# Altium schematic symbol library 制冷系统控制板.SCHLIB: 35 symbols
Pins are listed as number, name and electrical type; pins without a type are passive.

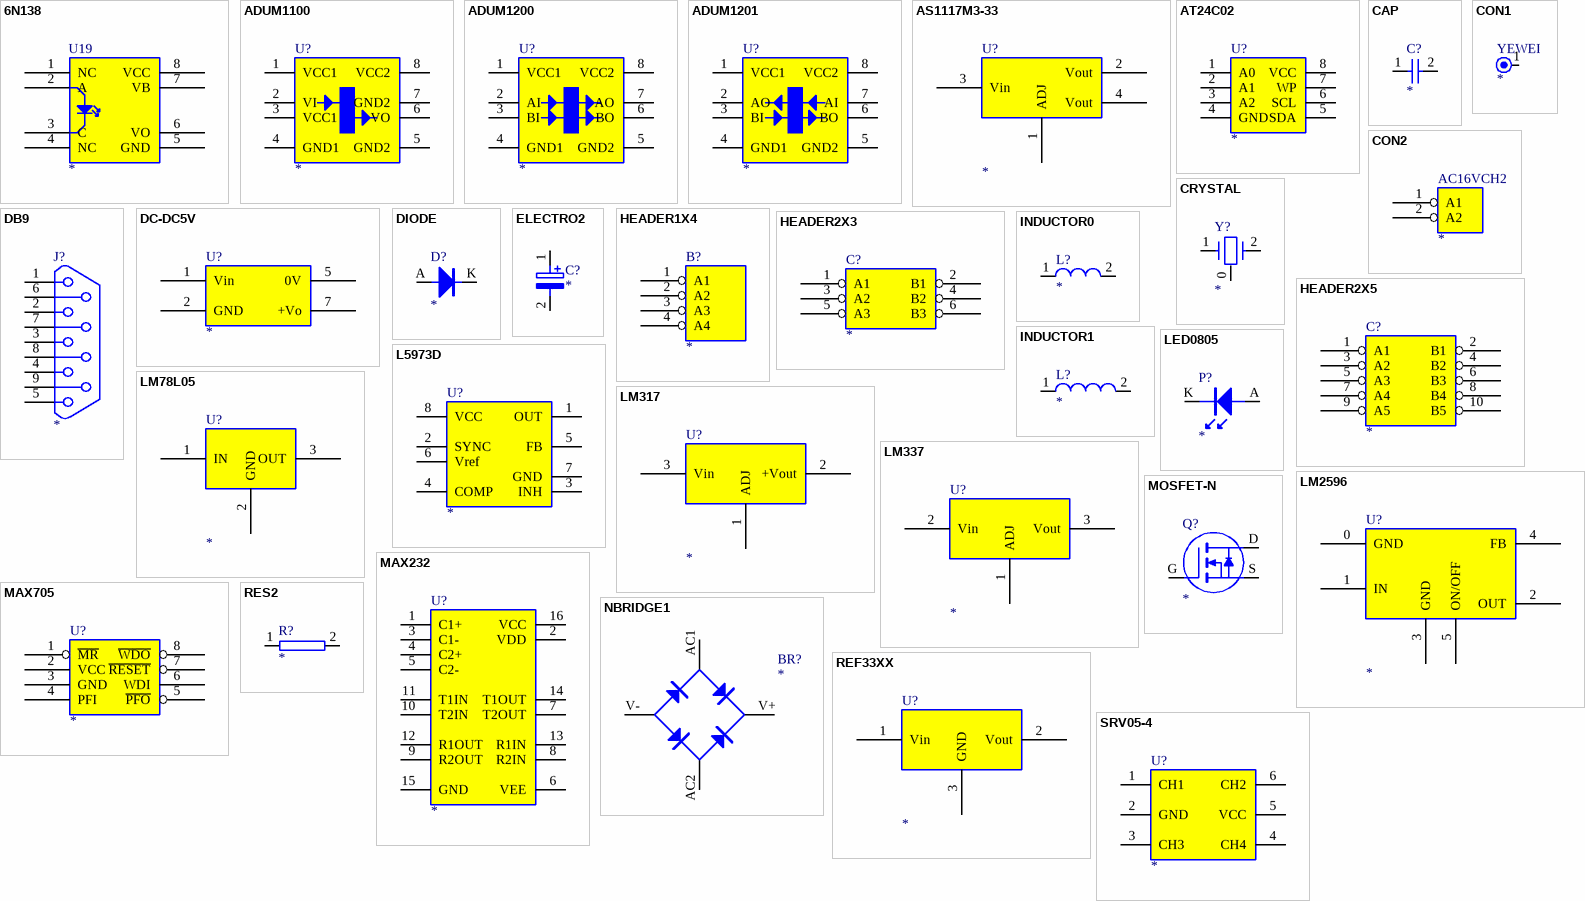
[diagram p0: symbols 6N138 to SRV05-4]

## 6N138
designator U19
footprint DIP08
footprint DIP08
pins: 1 NC, 2 A, 3 C, 4 NC, 5 GND, 6 VO, 7 VB, 8 VCC
2 alternate drawings of the same symbol

## ADUM1100
designator U?
footprint SOIC8_N
pins: 1 VCC1, 2 VI, 3 VCC1, 4 GND1, 5 GND2, 6 VO, 7 GND2, 8 VCC2
2 alternate drawings of the same symbol

## ADUM1200
designator U?
footprint SOIC8_N
pins: 1 VCC1, 2 AI, 3 BI, 4 GND1, 5 GND2, 6 BO, 7 AO, 8 VCC2
2 alternate drawings of the same symbol

## ADUM1201
designator U?
footprint SOIC8_N
pins: 1 VCC1, 2 AO, 3 BI, 4 GND1, 5 GND2, 6 BO, 7 AI, 8 VCC2
2 alternate drawings of the same symbol

## AS1117M3-33
designator U?
物?: *; 部?: *; 供?: *
footprint SOT-223-3L(M3)
pins: 1 ADJ, 2 Vout, 3 Vin, 4 Vout
2 alternate drawings of the same symbol

## AT24C02
designator U?
footprint SO-8
pins: 1 A0, 2 A1, 3 A2, 4 GND, 5 SDA, 6 SCL, 7 WP, 8 VCC
2 alternate drawings of the same symbol

## CAP
designator C?
footprint C0805
pins: 1, 2
2 alternate drawings of the same symbol

## CON1
designator YEWEI
footprint TESTSMD
pins: 1
2 alternate drawings of the same symbol

## CON2
designator AC16VCH2
footprint HEADER2
pins: 1 A1, 2 A2
2 alternate drawings of the same symbol

## CRYSTAL
designator Y?
物?: *; 部?: *; 供?: *
footprint XTAL_SOCKET
footprint XTAL4
pins: 0, 1, 2
2 alternate drawings of the same symbol

## DB9
designator J?
footprint DB9FL
pins: 1, 2, 3, 4, 5, 6, 7, 8, 9
2 alternate drawings of the same symbol

## DC-DC5V
designator U?
footprint DC-DC
pins: 1 Vin, 2 GND, 5 0V, 7 +Vo
2 alternate drawings of the same symbol

## DIODE
designator D?
footprint SMB
pins: A, K
2 alternate drawings of the same symbol

## ELECTRO2
designator C?
footprint RB.1/.2
pins: 1, 2
2 alternate drawings of the same symbol

## HEADER1X4
designator B?
footprint SIP_4
pins: 1 A1, 2 A2, 3 A3, 4 A4
2 alternate drawings of the same symbol

## HEADER2X3
designator C?
footprint HEADER6
pins: 1 A1, 2 B1, 3 A2, 4 B2, 5 A3, 6 B3
2 alternate drawings of the same symbol

## HEADER2X5
designator C?
LatestRevisionDate: *; LatestRevisionNote: *; Publisher: *
footprint HEARD2X5
pins: 1 A1, 2 B1, 3 A2, 4 B2, 5 A3, 6 B3, 7 A4, 8 B4, 9 A5, 10 B5
2 alternate drawings of the same symbol

## INDUCTOR0
designator L?
物?: *; 部?: *; 供?: *
footprint L0805
pins: 1, 2
2 alternate drawings of the same symbol

## INDUCTOR1
designator L?
footprint AXIAL0.4
pins: 1, 2
2 alternate drawings of the same symbol

## L5973D
designator U?
footprint HSOP8
pins: 1 OUT, 2 SYNC, 3 INH, 4 COMP, 5 FB, 6 Vref, 7 GND, 8 VCC
2 alternate drawings of the same symbol

## LED0805
designator P?
footprint LED_0805
pins: A, K
2 alternate drawings of the same symbol

## LM78L05
designator U?
footprint TO-220
pins: 1 IN, 2 GND, 3 OUT
2 alternate drawings of the same symbol

## LM317
designator U?
L
footprint TO220H
pins: 1 ADJ, 2 +Vout, 3 Vin
2 alternate drawings of the same symbol

## LM337
designator U?
footprint TO220H
pins: 1 ADJ, 2 Vin, 3 Vout
2 alternate drawings of the same symbol

## LM2596
designator U?
footprint TO263
pins: 0 GND, 1 IN, 2 OUT, 3 GND, 4 FB, 5 ON/OFF
2 alternate drawings of the same symbol

## MAX232
designator U?
Published: *; LatestRevisionDate: *; LatestRevisionNote: *; PackageReference: *; Publisher: *; PackageDescription: *; Code_JEDEC: *; Code_IPC: *; ComponentLink1Description: *; ComponentLink1URL: *; ComponentLink2Description: *; ComponentLink2URL: *
footprint TSSOP16_M
pins: 1 C1+, 2 VDD (power), 3 C1-, 4 C2+, 5 C2-, 6 VEE (power), 7 T2OUT, 8 R2IN, 9 R2OUT, 10 T2IN, 11 T1IN, 12 R1OUT, 13 R1IN, 14 T1OUT, 15 GND (power), 16 VCC (power)
2 alternate drawings of the same symbol

## MAX705
designator U?
footprint SO-8
pins: 1 ~{MR}, 2 VCC, 3 GND, 4 PFI, 5 ~{PFO}, 6 WDI, 7 ~{RESET}, 8 ~{WDO}
2 alternate drawings of the same symbol

## MOSFET-N
designator Q?
footprint SOT-23-B
pins: D, G, S

## NBRIDGE1
designator BR?
footprint DB157S
pins: AC1, AC2, V+, V-
2 alternate drawings of the same symbol

## REF33XX
designator U?
物?: *; 部?: *; 供?: *
footprint SOT-23-B
pins: 1 Vin, 2 Vout, 3 GND
2 alternate drawings of the same symbol

## RES2
designator R?
footprint R0805
pins: 1, 2
2 alternate drawings of the same symbol

## SRV05-4
designator U?
footprint SOT23-6
pins: 1 CH1, 2 GND, 3 CH3, 4 CH4, 5 VCC, 6 CH2
2 alternate drawings of the same symbol

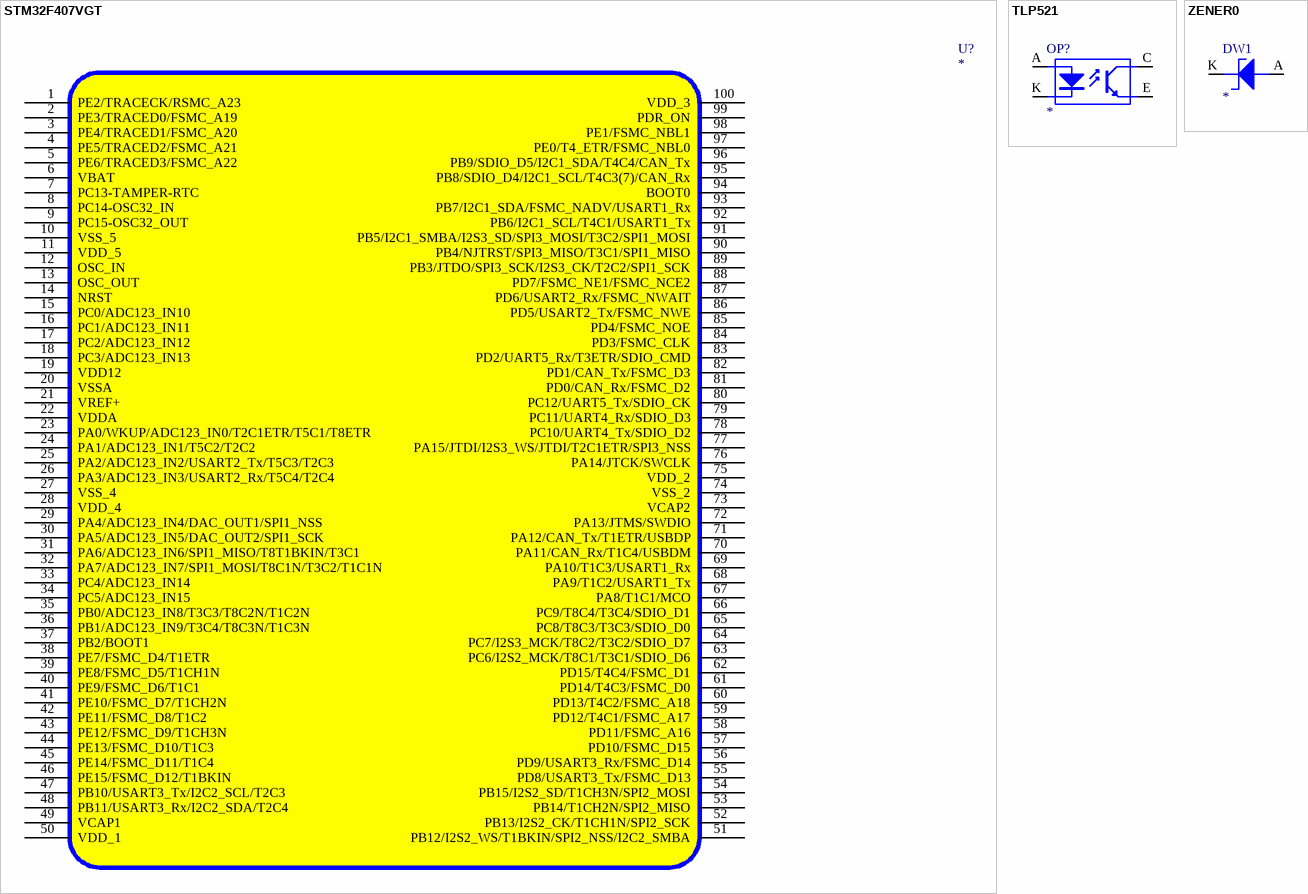
[diagram p1: symbols STM32F407VGT to ZENER0]

## STM32F407VGT
designator U?
footprint LQFP-100
pins: 1 PE2/TRACECK/RSMC_A23, 2 PE3/TRACED0/FSMC_A19, 3 PE4/TRACED1/FSMC_A20, 4 PE5/TRACED2/FSMC_A21, 5 PE6/TRACED3/FSMC_A22, 6 VBAT, 7 PC13-TAMPER-RTC, 8 PC14-OSC32_IN, 9 PC15-OSC32_OUT, 10 VSS_5, 11 VDD_5, 12 OSC_IN, 13 OSC_OUT, 14 NRST, 15 PC0/ADC123_IN10, 16 PC1/ADC123_IN11, 17 PC2/ADC123_IN12, 18 PC3/ADC123_IN13, 19 VDD12, 20 VSSA, 21 VREF+, 22 VDDA, 23 PA0/WKUP/ADC123_IN0/T2C1ETR/T5C1/T8ETR, 24 PA1/ADC123_IN1/T5C2/T2C2, 25 PA2/ADC123_IN2/USART2_Tx/T5C3/T2C3, 26 PA3/ADC123_IN3/USART2_Rx/T5C4/T2C4, 27 VSS_4, 28 VDD_4, 29 PA4/ADC123_IN4/DAC_OUT1/SPI1_NSS, 30 PA5/ADC123_IN5/DAC_OUT2/SPI1_SCK, 31 PA6/ADC123_IN6/SPI1_MISO/T8T1BKIN/T3C1, 32 PA7/ADC123_IN7/SPI1_MOSI/T8C1N/T3C2/T1C1N, 33 PC4/ADC123_IN14, 34 PC5/ADC123_IN15, 35 PB0/ADC123_IN8/T3C3/T8C2N/T1C2N, 36 PB1/ADC123_IN9/T3C4/T8C3N/T1C3N, 37 PB2/BOOT1, 38 PE7/FSMC_D4/T1ETR, 39 PE8/FSMC_D5/T1CH1N, 40 PE9/FSMC_D6/T1C1, 41 PE10/FSMC_D7/T1CH2N, 42 PE11/FSMC_D8/T1C2, 43 PE12/FSMC_D9/T1CH3N, 44 PE13/FSMC_D10/T1C3, 45 PE14/FSMC_D11/T1C4, 46 PE15/FSMC_D12/T1BKIN, 47 PB10/USART3_Tx/I2C2_SCL/T2C3, 48 PB11/USART3_Rx/I2C2_SDA/T2C4, 49 VCAP1, 50 VDD_1, 51 PB12/I2S2_WS/T1BKIN/SPI2_NSS/I2C2_SMBA, 52 PB13/I2S2_CK/T1CH1N/SPI2_SCK, 53 PB14/T1CH2N/SPI2_MISO, 54 PB15/I2S2_SD/T1CH3N/SPI2_MOSI, 55 PD8/USART3_Tx/FSMC_D13, 56 PD9/USART3_Rx/FSMC_D14, 57 PD10/FSMC_D15, 58 PD11/FSMC_A16, 59 PD12/T4C1/FSMC_A17, 60 PD13/T4C2/FSMC_A18, 61 PD14/T4C3/FSMC_D0, 62 PD15/T4C4/FSMC_D1, 63 PC6/I2S2_MCK/T8C1/T3C1/SDIO_D6, 64 PC7/I2S3_MCK/T8C2/T3C2/SDIO_D7, 65 PC8/T8C3/T3C3/SDIO_D0, 66 PC9/T8C4/T3C4/SDIO_D1, 67 PA8/T1C1/MCO, 68 PA9/T1C2/USART1_Tx, 69 PA10/T1C3/USART1_Rx, 70 PA11/CAN_Rx/T1C4/USBDM, 71 PA12/CAN_Tx/T1ETR/USBDP, 72 PA13/JTMS/SWDIO, 73 VCAP2, 74 VSS_2, 75 VDD_2, 76 PA14/JTCK/SWCLK, 77 PA15/JTDI/I2S3_WS/JTDI/T2C1ETR/SPI3_NSS, 78 PC10/UART4_Tx/SDIO_D2, 79 PC11/UART4_Rx/SDIO_D3, 80 PC12/UART5_Tx/SDIO_CK, 81 PD0/CAN_Rx/FSMC_D2, 82 PD1/CAN_Tx/FSMC_D3, 83 PD2/UART5_Rx/T3ETR/SDIO_CMD, 84 PD3/FSMC_CLK, 85 PD4/FSMC_NOE, 86 PD5/USART2_Tx/FSMC_NWE, 87 PD6/USART2_Rx/FSMC_NWAIT, 88 PD7/FSMC_NE1/FSMC_NCE2, 89 PB3/JTDO/SPI3_SCK/I2S3_CK/T2C2/SPI1_SCK, 90 PB4/NJTRST/SPI3_MISO/T3C1/SPI1_MISO, 91 PB5/I2C1_SMBA/I2S3_SD/SPI3_MOSI/T3C2/SPI1_MOSI, 92 PB6/I2C1_SCL/T4C1/USART1_Tx, 93 PB7/I2C1_SDA/FSMC_NADV/USART1_Rx, 94 BOOT0, 95 PB8/SDIO_D4/I2C1_SCL/T4C3(7)/CAN_Rx, 96 PB9/SDIO_D5/I2C1_SDA/T4C4/CAN_Tx, 97 PE0/T4_ETR/FSMC_NBL0, 98 PE1/FSMC_NBL1, 99 PDR_ON, 100 VDD_3
2 alternate drawings of the same symbol

## TLP521
designator OP?
footprint DIP04
pins: A, C, E, K
2 alternate drawings of the same symbol

## ZENER0
designator DW1
footprint DIODE0.2
pins: A, K
2 alternate drawings of the same symbol